# EAGLE library part PINHD-1X6 (library usb_snes)
PIN HEADER
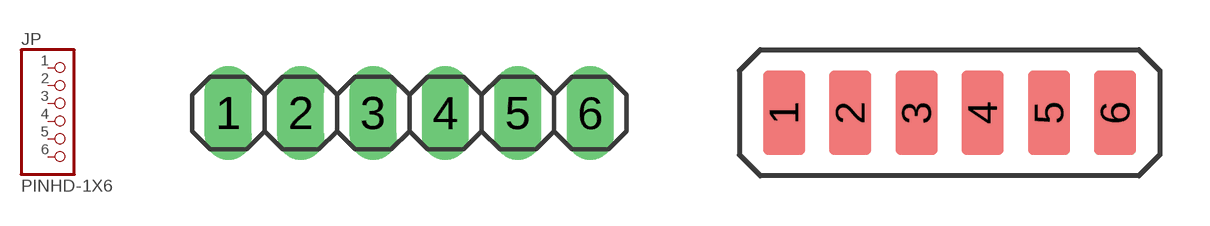
[diagram p2: symbol with the pads of 1X06; footprints 1X06, 1X06-2MM]

Designator prefix JP

## PINHD-1X6  [1X06]
1  1  pas
2  2  pas
3  3  pas
4  4  pas
5  5  pas
6  6  pas

## PINHD-1X6S  [1X06-2MM]
Pads as for 1X06

## Footprint 1X06 (pad centres in mm)
PIN HEADER
drill 1.1 long: 1 -6.35,0; 2 -3.81,0; 3 -1.27,0; 4 1.27,0; 5 3.81,0; 6 6.35,0

## Footprint 1X06-2MM (pad centres in mm)
smd 1.27 x 2.54: 1 -5,0; 2 -3,0; 3 -1,0; 4 1,0; 5 3,0; 6 5,0